# EAGLE library part INA226 (library INA226)
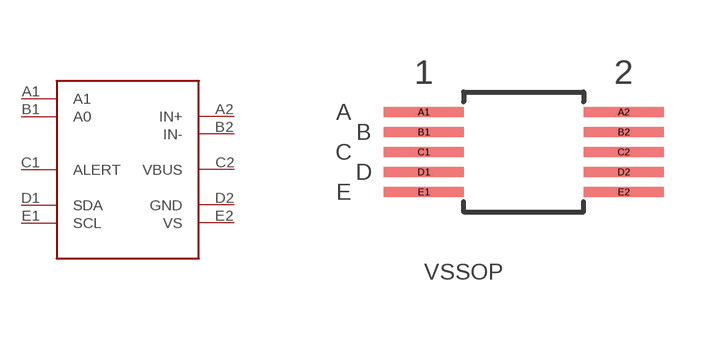
[diagram p0: symbol with the pads of VSSOP-10; footprint VSSOP-10]

Designator prefix -

## INA226  [VSSOP-10]
A1  A1  in
A2  IN+  in
B1  A0  in
B2  IN-  in
C1  ALERT  out
C2  VBUS  in
D1  SDA
D2  GND  pwr
E1  SCL  in
E2  VS  pwr

## Footprint VSSOP-10 (pad centres in mm)
smd 2 x 0.25: A1 -2.5,2; A2 2.5,2; B1 -2.5,1.5; B2 2.5,1.5; C1 -2.5,1; C2 2.5,1; D1 -2.5,0.5; D2 2.5,0.5; E1 -2.5,0; E2 2.5,0